# Altium schematic symbol library 74437336033.SchLib: 2 symbols
Pins are listed as number, name and electrical type; pins without a type are passive.

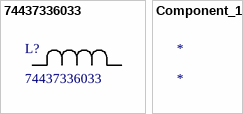
[diagram p0: symbols 74437336033 to Component_1]

## 74437336033
designator L?
No Description Available; Mfr_Name: Wurth Electronics; Type: DEV; Copyright: Copyright (C) 2023 Ultra Librarian. All rights reserved.; Manufacturer_Part_Number: 74437336033; RefDes: RefDes
footprint IND_WE-LHMI_5030_WRE
pins: 1, 2

## Component_1
designator *